# Altium footprint library BT100_V1.1.PcbLib: 23 footprints (part 1 of 2)
Each footprint in its own frame and in the unit in brackets; x right, y up, seen from the top. Pads: shape width x height; smd on the part's side, far side on the other; paste and mask are expansions set on the pad; w line width, h text height; cw(c..) or ccw(c..) is an arc to the next point about the centre after c.
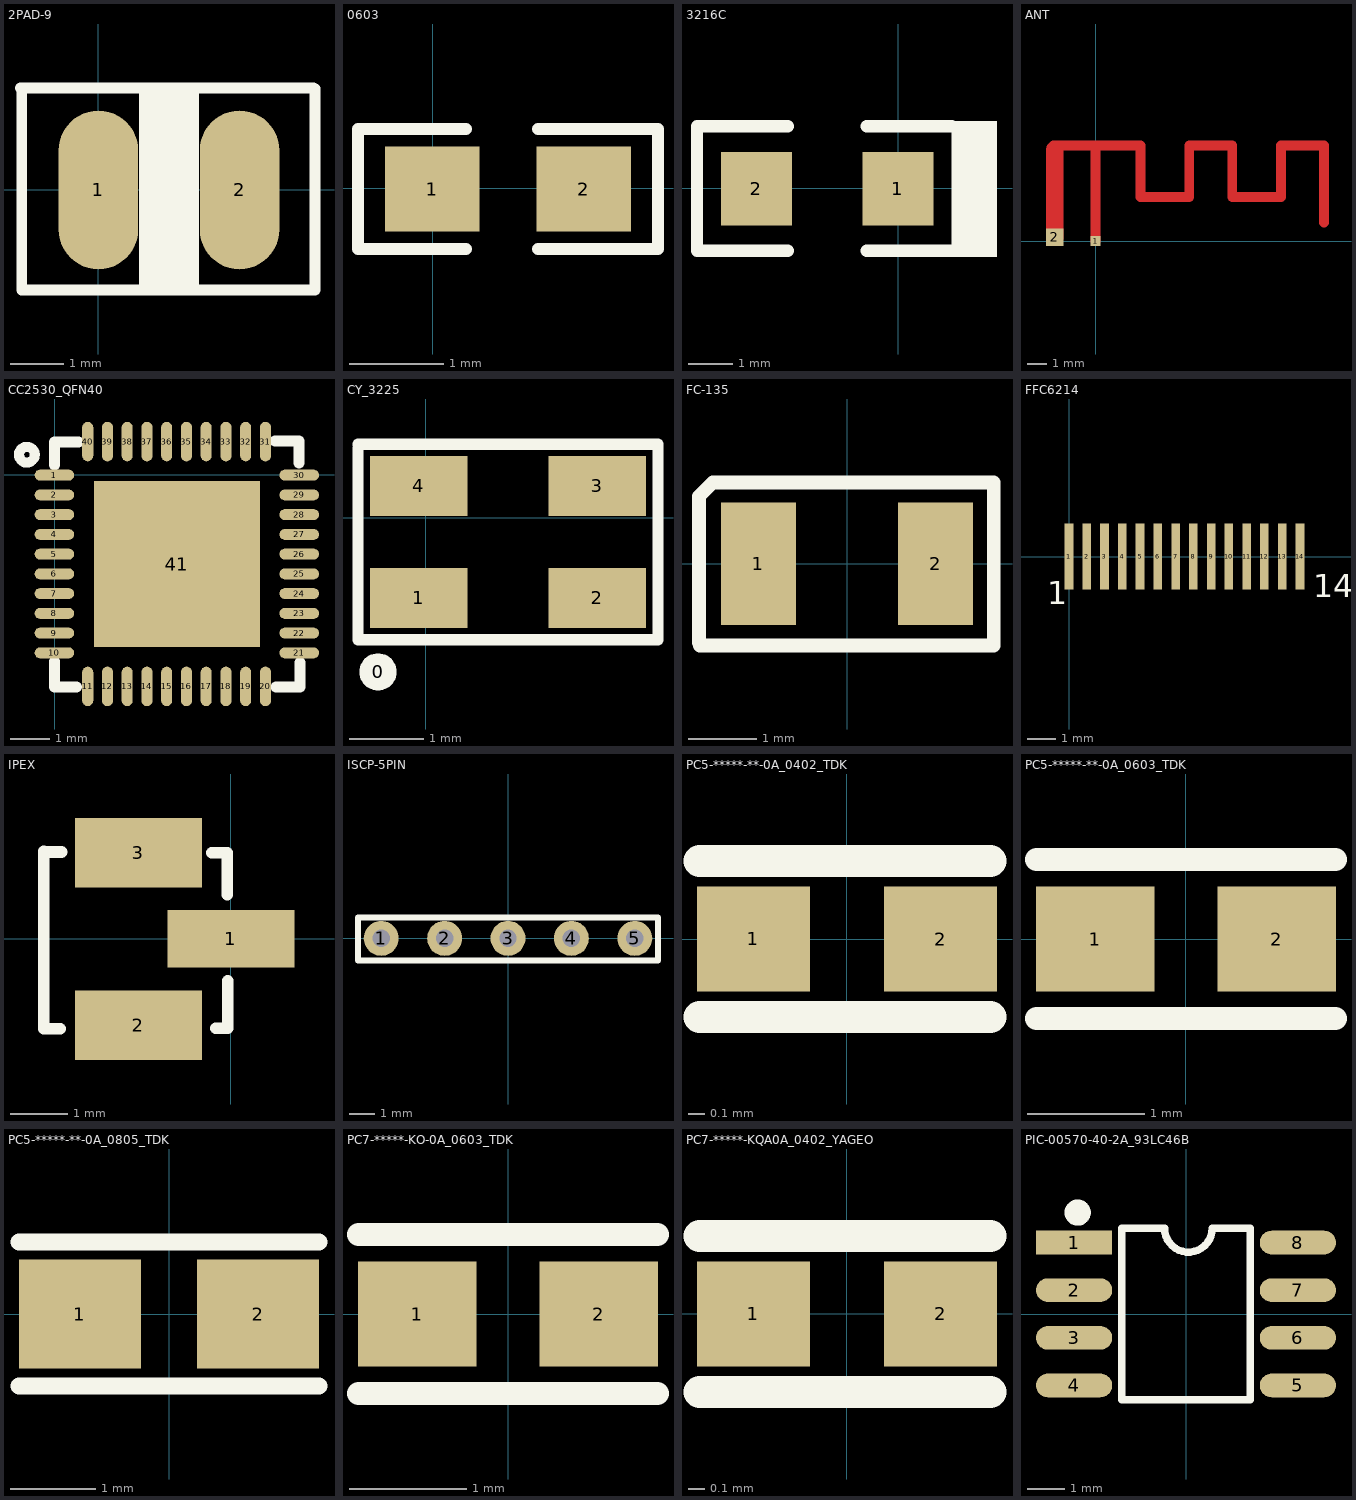
[diagram p0: the footprints below, top view; thin cyan lines are the x and y axes]

## 2PAD-9 [mm]
height 30.4
pads (2):
  oval 1.5x3 smd: 1(0,0) 2(2.667,0)
Top Overlay:
  region: 1.9,-1.89 1.9,1.925 0.77,1.925 0.77,-1.89
  lines w0.203: -1.472,1.925 4.065,1.925 ; -1.448,1.91 -1.448,-1.89 4.089,-1.89 4.089,1.91

## 0603 [mm]
height 3.9
pads (2):
  rect 1x0.9 smd: 1(-0.005,-0.007) 2(1.595,-0.007)
Top Overlay:
  lines w0.127: 0.35,-0.642 -0.793,-0.642 -0.793,0.628 0.35,0.628 ; 1.112,-0.642 2.382,-0.642 2.382,0.628 1.112,0.628

## 3216C [mm]
height 30.4
pads (2):
  rect 1.6x1.65 smd: 1(-0.009,-0.005) 2(-3.184,-0.005)
Top Overlay:
  rectangle: 1.198,-1.542 2.214,1.519
  lines w0.28: -2.485,-1.402 -4.517,-1.402 -4.517,1.392 -2.485,1.392 ; -0.707,-1.402 1.198,-1.402 ; -0.707,1.392 1.198,1.392

## ANT [mm]
height 30.4
pads (2):
  rect 0.5x0.5 smd: 1(0,0)
  rect 0.9x0.9 smd: 2(-2.1,0.2)
Top Layer:
  lines w0.5: -2.26,4.79 -2.21,4.84 -2.15,4.9 0,4.9 ; 0,0 0,4.9 ; 11.7,0.96 11.7,4.9 9.5,4.9 9.5,2.26 7,2.26 7,4.9 4.8,4.9 4.8,2.26 2.3,2.26 2.3,4.9 0,4.9
  lines w0.9: -2.1,0.2 -2.1,4.65
Top Solder:
  rectangle: -3.05,0.29 12.31,5.588

## CC2530_QFN40 [mm]
height 30.4
pads (41):
  oval 1x0.28 smd: 1(-0.011,-0.009) 2(-0.011,-0.509) 3(-0.011,-1.009) 4(-0.011,-1.509) 5(-0.011,-2.009) 6(-0.011,-2.509) 7(-0.011,-3.009) 8(-0.011,-3.509) 9(-0.011,-4.009) 10(-0.011,-4.509) 21(6.189,-4.509) 22(6.189,-4.009) 23(6.189,-3.509) 24(6.189,-3.009) 25(6.189,-2.509) 26(6.189,-2.009) 27(6.189,-1.509) 28(6.189,-1.009) 29(6.189,-0.509) 30(6.189,-0.009)
  oval 0.28x1 smd: 11(0.832,-5.359) 12(1.332,-5.359) 13(1.832,-5.359) 14(2.332,-5.359) 15(2.832,-5.359) 16(3.332,-5.359) 17(3.832,-5.359) 18(4.332,-5.359) 19(4.832,-5.359) 20(5.332,-5.359) 31(5.332,0.841) 32(4.832,0.841) 33(4.332,0.841) 34(3.832,0.841) 35(3.332,0.841) 36(2.832,0.841) 37(2.332,0.841) 38(1.832,0.841) 39(1.332,0.841) 40(0.832,0.841)
  rect 4.2x4.2 smd: 41(3.089,-2.259)
Top Overlay:
  circle w0.254: c-0.708,0.508 r0.2
  lines w0.28: -0.011,-4.734 -0.011,-5.369 0.548,-5.369 ; -0.011,0.245 -0.011,0.829 0.598,0.829 ; 5.577,0.854 6.186,0.854 6.186,0.295 ; 5.602,-5.369 6.212,-5.369 6.212,-4.759

## CY_3225 [mm]
height 30.4
pads (5):
  round 0.5 on Top Overlay: 0(-0.64,-2.06)
  rect 1.3x0.8 smd: 1(-0.095,-1.07) 2(2.293,-1.07) 3(2.293,0.428) 4(-0.095,0.428)
Top Overlay:
  lines w0.152: -0.908,-1.477 -0.908,-1.401 ; -0.908,0.936 -0.908,-1.629 3.004,-1.629 ; -0.908,0.987 3.004,0.987 ; 1.455,0.987 3.106,0.987 3.106,-1.629 2.928,-1.629

## FC-135 [mm]
height 1.6
pads (2):
  rect 1.1x1.8 smd: 1(-1.3,0) 2(1.3,0)
Top Overlay:
  lines w0.2: -2.16,-1.2 2.15,-1.2 2.15,1.17 2.13,1.19 ; -2.13,-1.2 -2.17,-1.16 -2.17,0.99 -1.97,1.19 ; -1.93,1.19 2.15,1.19

## FFC6214 [mm]
height 3.9
pads (14):
  rect 0.3x2.3 smd: 1(-0.009,0.01) 2(0.611,0.01) 3(1.231,0.01) 4(1.851,0.01) 5(2.471,0.01) 6(3.091,0.01) 7(3.711,0.01) 8(4.331,0.01) 9(4.951,0.01) 10(5.571,0.01) 11(6.191,0.01) 12(6.811,0.01) 13(7.431,0.01) 14(8.051,0.01)
Top Overlay:
  text "14" at 8.509,-1.397 h0.8
  text "1" at -0.762,-1.651 h0.8

## IPEX [mm]
height 30.4
pads (3):
  rect 2.2x1 smd: 1(0,0)
  rect 2.2x1.2 smd: 2(-1.6,-1.5) 3(-1.6,1.49)
Top Overlay:
  lines w0.2: -3.24,1.51 -3.24,-1.56 -2.95,-1.56 ; -3.23,1.5 -2.93,1.5 ; -0.33,1.49 -0.06,1.49 -0.06,0.76 ; -0.26,-1.55 -0.05,-1.55 -0.05,-0.73

## ISCP-5PIN [mm]
height 30.4
pads (5):
  round 1.4 hole 0.7: 1(-5.08,0) 2(-2.54,0) 3(0,0) 4(2.54,0) 5(5.08,0)
Top Overlay:
  lines w0.25: 3.85,-0.89 3.849,-0.889 ; 3.849,-0.889 3.683,-0.889 3.682,-0.89 -6.01,-0.89 -6.01,0.84 3.605,0.84 3.85,0.84 6.01,0.84 6.01,-0.89 6.009,-0.889 3.849,-0.889

## PC5-*****-**-0A_0402_TDK [mm] "0402"
height 30.4
pads (2):
  rect 0.7x0.65 smd: 1(-0.58,0) 2(0.58,0)
Top Overlay:
  lines w0.2: -0.912,-0.483 0.888,-0.483 ; -0.912,0.483 0.888,0.483

## PC5-*****-**-0A_0603_TDK [mm] "0603"
height 30.4
pads (2):
  rect 1.016x0.9 smd: 1(-0.775,0) 2(0.776,0)
Top Overlay:
  lines w0.2: -1.275,-0.681 1.276,-0.681 ; -1.275,0.681 1.276,0.681

## PC5-*****-**-0A_0805_TDK [mm] "0805"
height 30.4
pads (2):
  rect 1.424x1.27 smd: 1(-1.04,0) 2(1.04,0)
Top Overlay:
  lines w0.2: -1.749,-0.842 1.749,-0.842 ; -1.749,0.842 1.749,0.842

## PC7-*****-KO-0A_0603_TDK [mm] "0603"
height 30.4
pads (2):
  rect 1.016x0.9 smd: 1(-0.776,0) 2(0.776,0)
Top Overlay:
  lines w0.2: -1.275,-0.681 1.275,-0.681 ; -1.275,0.681 1.275,0.681

## PC7-*****-KQA0A_0402_YAGEO [mm] "0402"
height 30.4
pads (2):
  rect 0.7x0.65 smd: 1(-0.58,0) 2(0.58,0)
Top Overlay:
  lines w0.2: -0.912,-0.483 0.888,-0.483 ; -0.912,0.483 0.888,0.483

## PIC-00570-40-2A_93LC46B [mil] "SOIC-8"
height 68.9
pads (8):
  rect 80x25 smd: 1(-117.5,75)
  oval 80x25 smd: 2(-117.5,25) 3(-117.5,-25) 4(-117.5,-75) 5(117.5,-75) 6(117.5,-25) 7(117.5,25) 8(117.5,75)
Top Overlay:
  circle w17.72: c-113.76,106.5 r4.92
  lines w7.87: -67.5,-90 -67.5,90 -22.5,90 ccw(c2.5,90) 27.5,90 67.5,90 67.5,-90 -67.5,-90